# EAGLE library part DSPIC_BO (library stepOSP)
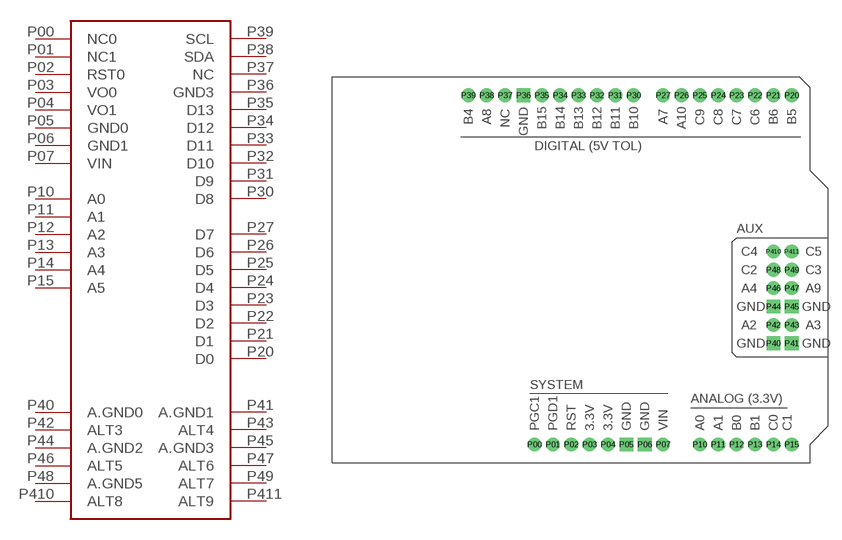
[diagram p3: symbol with the pads of DSPIC_BO; footprint DSPIC_BO]

Designator prefix -

## DSPIC_BO  [DSPIC_BO]
P00  NC0
P01  NC1
P02  RST0
P03  VO0
P04  VO1
P05  GND0
P06  GND1
P07  VIN
P10  A0
P11  A1
P12  A2
P13  A3
P14  A4
P15  A5
P20  D0
P21  D1
P22  D2
P23  D3
P24  D4
P25  D5
P26  D6
P27  D7
P30  D8
P31  D9
P32  D10
P33  D11
P34  D12
P35  D13
P36  GND3
P37  NC
P38  SDA
P39  SCL
P40  A.GND0
P41  A.GND1
P42  ALT3
P43  ALT4
P44  A.GND2
P45  A.GND3
P46  ALT5
P47  ALT6
P48  A.GND5
P49  ALT7
P410  ALT8
P411  ALT9

## Footprint DSPIC_BO (pad centres in mm)
drill 1.016 pad 1.88: P00 27.94,2.54; P01 30.48,2.54; P02 33.02,2.54; P03 35.56,2.54; P04 38.1,2.54; P07 45.72,2.54; P10 50.8,2.54; P11 53.34,2.54; P12 55.88,2.54; P13 58.42,2.54; P14 60.96,2.54; P15 63.5,2.54; P20 63.5,50.8; P21 60.96,50.8; P22 58.42,50.8; P23 55.88,50.8; P24 53.34,50.8; P25 50.8,50.8; P26 48.26,50.8; P27 45.72,50.8; P30 41.656,50.8; P31 39.116,50.8; P32 36.576,50.8; P33 34.036,50.8; P34 31.496,50.8; P35 28.956,50.8; P37 23.876,50.8; P38 21.336,50.8; P39 18.796,50.8; P42 60.96,19.05; P43 63.5,19.05; P46 60.96,24.13; P47 63.5,24.13; P48 60.96,26.67; P49 63.5,26.67; P410 60.96,29.21; P411 63.5,29.21
drill 1.016 pad 1.88 square: P05 40.64,2.54; P06 43.18,2.54; P36 26.416,50.8; P40 60.96,16.51; P41 63.5,16.51; P44 60.96,21.59; P45 63.5,21.59